# Altium footprint library bolt.PcbLib: 1 footprints
Each footprint in its own frame and in the unit in brackets; x right, y up, seen from the top. Pads: shape width x height; smd on the part's side, far side on the other; paste and mask are expansions set on the pad; w line width, h text height; cw(c..) or ccw(c..) is an arc to the next point about the centre after c.

## bolt_M8 [mm]
3D body: height 8.5, standoff -8.5, extent -6.594,-4.699 10.404,19.301